# Altium footprint library HSY-16-2130UBGC.PcbLib: 1 footprints
Each footprint in its own frame and in the unit in brackets; x right, y up, seen from the top. Pads: shape width x height; smd on the part's side, far side on the other; paste and mask are expansions set on the pad; w line width, h text height; cw(c..) or ccw(c..) is an arc to the next point about the centre after c.
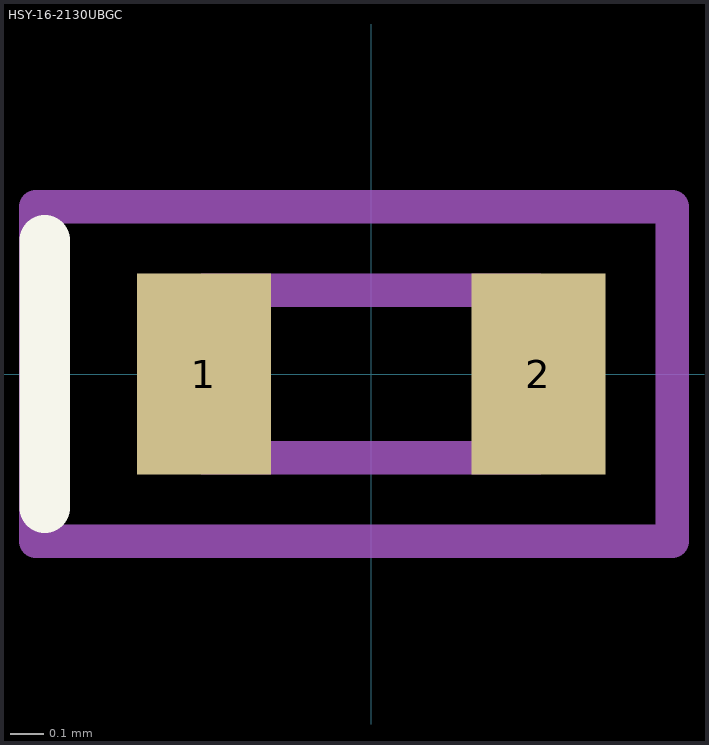
[diagram p0: the footprint, top view; thin cyan lines are the x and y axes]

## HSY-16-2130UBGC [mm] "Pitch 1.0 mm Body 1.0X0.5mm High 0.45mm"
height 0.45
pads (2):
  rect 0.4x0.6 smd: 1(-0.5,0) 2(0.5,0)
Top Overlay:
  lines w0.152: -0.976,-0.4 -0.976,0.4
Mechanical 13:
  lines w0.1: -0.5,-0.25 -0.5,0.25 0.5,0.25 0.5,-0.25 -0.5,-0.25
Mechanical 15:
  lines w0.1: -1.002,-0.5 -1.002,0.5 ; -1,-0.5 0.9,-0.5 0.9,0.5 -1,0.5
3D body: height 0.21, standoff 0, extent -0.5,-0.25 0.5,0.25
3D body: height 0.45, standoff 0.2, extent -0.3,-0.25 0.3,0.25